# EAGLE library part ESP8266EX (library IC_Wireless-RF)
Wi-Fi MCU with 802.11b/g/n 2.4GHz support Datasheet <https://www.espressif.com/sites/default/files/documentation/0a-esp8266ex_datasheet_en.pdf>
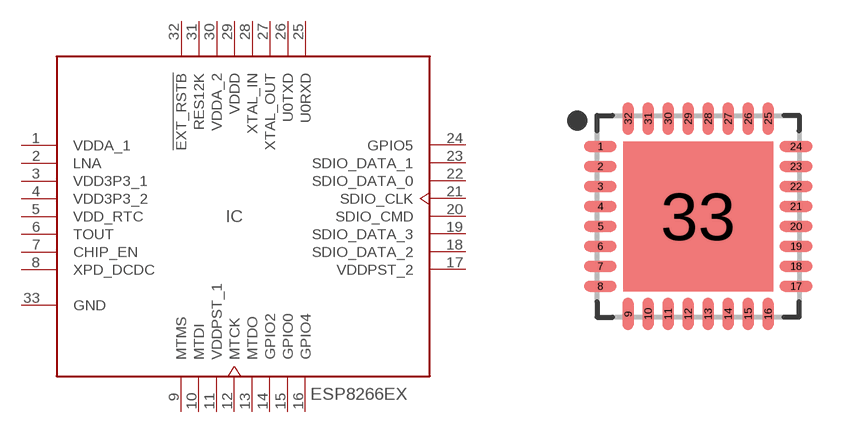
[diagram p22: symbol with the pads of QFN50P500X500X90-33T375N; footprint QFN50P500X500X90-33T375N]

Designator prefix IC

## ESP8266EX (CATEGORY: IC_Wireless-RF; DESCRIPTION: RF System on a Chip - SoC SMD IC ESP8266EX, QFN32-pin; MANUFACTUERE: Espressif Systems; MPN: ESP8266EX; OPERATING_TEMPERATURE: - 40°C TO +125°C; PART_STATUS: ACTIVE; ROHS_COMPLIANT: COMPLIANT; SERIES: ESP8266; SUB_CATEGORY: WiFi module; TYPE: RF-SoC; VALUE: ESP8266)  [QFN50P500X500X90-33T375N]
1  VDDA_1  pwr
2  LNA
3  VDD3P3_1  pwr
4  VDD3P3_2  pwr
5  VDD_RTC  pwr
6  TOUT  in
7  CHIP_EN  in
8  XPD_DCDC
9  MTMS
10  MTDI
11  VDDPST_1  pwr
12  MTCK
13  MTDO
14  GPIO2
15  GPIO0
16  GPIO4
17  VDDPST_2  pwr
18  SDIO_DATA_2
19  SDIO_DATA_3
20  SDIO_CMD
21  SDIO_CLK
22  SDIO_DATA_0
23  SDIO_DATA_1
24  GPIO5
25  U0RXD
26  U0TXD
27  XTAL_OUT  out
28  XTAL_IN  in
29  VDDD  pwr
30  VDDA_2  pwr
31  RES12K  in
32  !EXT_RSTB  in
33  GND  pwr

## Footprint QFN50P500X500X90-33T375N (pad centres in mm)
32-QFN, 0.50 mm pitch, 5.00 X 5.00 X 0.90 mm body, 3.75 X 3.75 mm thermal pad 32-pin QFN package with 0.50 mm pitch with body size 5.00 X 5.00 X 0.90 mm and thermal pad size 3.75 X 3.75 mm
smd 0.813 x 0.274: 1 -2.445,1.75; 2 -2.445,1.25; 3 -2.445,0.75; 4 -2.445,0.25; 5 -2.445,-0.25; 6 -2.445,-0.75; 7 -2.445,-1.25; 8 -2.445,-1.75; 17 2.445,-1.75; 18 2.445,-1.25; 19 2.445,-0.75; 20 2.445,-0.25; 21 2.445,0.25; 22 2.445,0.75; 23 2.445,1.25; 24 2.445,1.75
smd 0.274 x 0.813: 9 -1.75,-2.445; 10 -1.25,-2.445; 11 -0.75,-2.445; 12 -0.25,-2.445; 13 0.25,-2.445; 14 0.75,-2.445; 15 1.25,-2.445; 16 1.75,-2.445; 25 1.75,2.445; 26 1.25,2.445; 27 0.75,2.445; 28 0.25,2.445; 29 -0.25,2.445; 30 -0.75,2.445; 31 -1.25,2.445; 32 -1.75,2.445
smd 3.75 x 3.75: 33 0,0